# Altium schematic symbol library PDS760-13.SchLib: 1 symbol
Pins are listed as number, name and electrical type; pins without a type are passive.

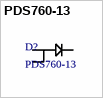
[diagram p0: symbol PDS760-13]

## PDS760-13
designator D?
SCHOTTKY RECTIFIER POWERDI5
footprint DFN540P650X115-3N (DFN, 3-Leads, Body 3,97x6,50mm, Pitch 5,40mm, IPC Medium Density)
pins: 1 A, 2 A, 3 K